# EAGLE library part TS19370CX6RF (library Taiwan_Semiconductor_By_element14_Batch_1)
Boost (Step-up) WLED Driver
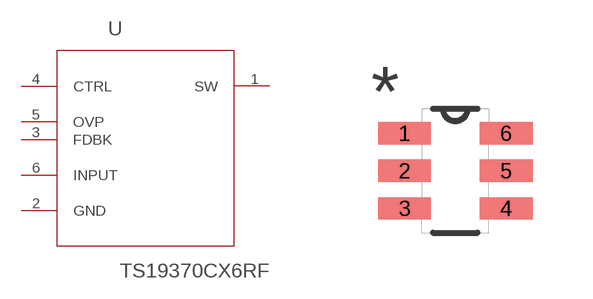
[diagram p0: symbol with the pads of SOT95P280X120-6N; footprint SOT95P280X120-6N]

Designator prefix U

## TS19370CX6RF (MPN: TS19370CX6RF; OC_FARNELL: 1824779; OC_NEWARK: 79R6661; PACKAGE: SOT-26-6; SUPPLIER: Taiwan Semiconductors)  [SOT95P280X120-6N]
1  SW  out
2  GND  in
3  FDBK  in
4  CTRL  in
5  OVP  in
6  INPUT  in

## Footprint SOT95P280X120-6N (pad centres in mm)
smd 1.321 x 0.559: 1 -1.27,0.94; 2 -1.27,0; 3 -1.27,-0.94; 4 1.27,-0.94; 5 1.27,0; 6 1.27,0.94